# EAGLE library part L6234_L6235 (library pendulum_control_board)
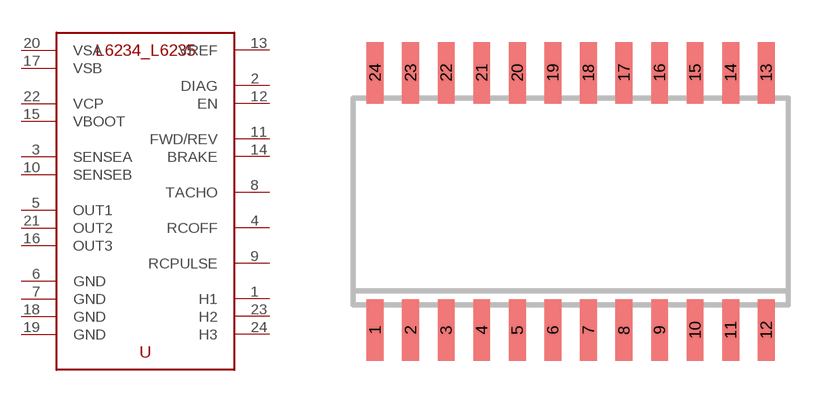
[diagram p0: symbol with the pads of L6234_SO24W; footprint L6234_SO24W]

Designator prefix -

## L6234_L6235  [L6234_SO24W]
1  H1
2  DIAG
3  SENSEA
4  RCOFF
5  OUT1
6  GND
7  GND
8  TACHO
9  RCPULSE
10  SENSEB
11  FWD/REV
12  EN
13  VREF
14  BRAKE
15  VBOOT
16  OUT3
17  VSB
18  GND
19  GND
20  VSA
21  OUT2
22  VCP
23  H2
24  H3

## Footprint L6234_SO24W (pad centres in mm)
SMALL OUTLINE INTEGRATED CIRCUIT wide body 7.5 mm/JEDEC MO-119AA
smd 0.6 x 2.2: 1 -6.985,-4.6; 2 -5.715,-4.6; 3 -4.445,-4.6; 4 -3.175,-4.6; 5 -1.905,-4.6; 6 -0.635,-4.6; 7 0.635,-4.6; 8 1.905,-4.6; 9 3.175,-4.6; 10 4.445,-4.6; 11 5.715,-4.6; 12 6.985,-4.6; 13 6.985,4.6; 14 5.715,4.6; 15 4.445,4.6; 16 3.175,4.6; 17 1.905,4.6; 18 0.635,4.6; 19 -0.635,4.6; 20 -1.905,4.6; 21 -3.175,4.6; 22 -4.445,4.6; 23 -5.715,4.6; 24 -6.985,4.6